# Altium integrated library RCS06032K49FKEA.IntLib: 1 symbol
Pins are listed as number, name and electrical type; pins without a type are passive.

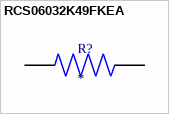
[diagram p0: symbol RCS06032K49FKEA]

## RCS06032K49FKEA
designator R?
MP: RCS06032K49FKEA; Package: None; Price: None; Value: *; Availability: Unavailable
footprint RESC1508X50N
pins: 1, 2